# Altium schematic symbol library MW7IC2725N.SchLib: 1 symbol
Pins are listed as number, name and electrical type; pins without a type are passive.

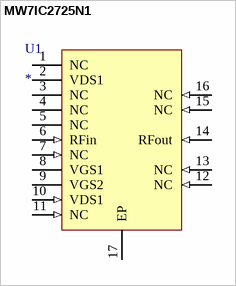
[diagram p0: symbol MW7IC2725N1]

## MW7IC2725N1
designator U1
The MW7IC2725N wideband integrated circuit is designed with on- chip / matching that makes it usable from 2300- 2700 MHz. This multi- stage / structure is rated for 26 to 32 Volt operation and covers all typical cellular / base station modulation formats.; ComponentLink1Description: Datasheet; ComponentLink1URL: https://www.nxp.com/docs/en/data-sheet/MW7IC2725N.pdf
footprint CFP102P1410X258-16N (CFP, 16-Leads, Body 17.50x9.00mm (max), Pitch 1.02mm, IPC Medium Density)
pins: 1 NC (hiz), 2 VDS1 (power), 3 NC (hiz), 4 NC (hiz), 5 NC (hiz), 6 RFin (in), 7 NC (in), 8 VGS1 (power), 9 VGS2 (power), 10 VDS1 (in), 11 NC (in), 12 NC (in), 13 NC (in), 14 RFout (in), 15 NC (in), 16 NC (in), 17 EP "Exposed pad"